# Altium schematic symbol library OPA857IRGTT.SchLib: 1 symbol
Pins are listed as number, name and electrical type; pins without a type are passive.

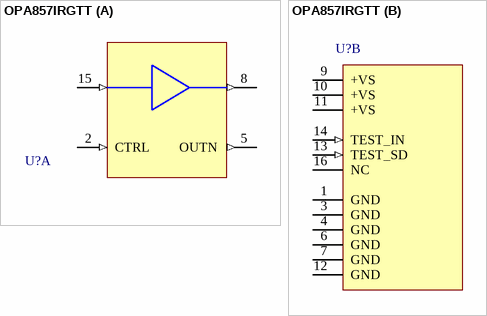
[diagram p0: symbol OPA857IRGTT]

## OPA857IRGTT
designator U?
part A pins: 2 CTRL (in), 5 OUTN (out), 8 OUT (out), 15 IN (in)
part B pins: 1 GND (power), 3 GND (power), 4 GND (power), 6 GND (power), 7 GND (power), 9 +VS (power), 10 +VS (power), 11 +VS (power), 12 GND (power), 13 TEST_SD (in), 14 TEST_IN (in), 16 NC